# Altium footprint library CUI_PBO-5C.PcbLib: 1 footprints
Each footprint in its own frame and in the unit in brackets; x right, y up, seen from the top. Pads: shape width x height; smd on the part's side, far side on the other; paste and mask are expansions set on the pad; w line width, h text height; cw(c..) or ccw(c..) is an arc to the next point about the centre after c.
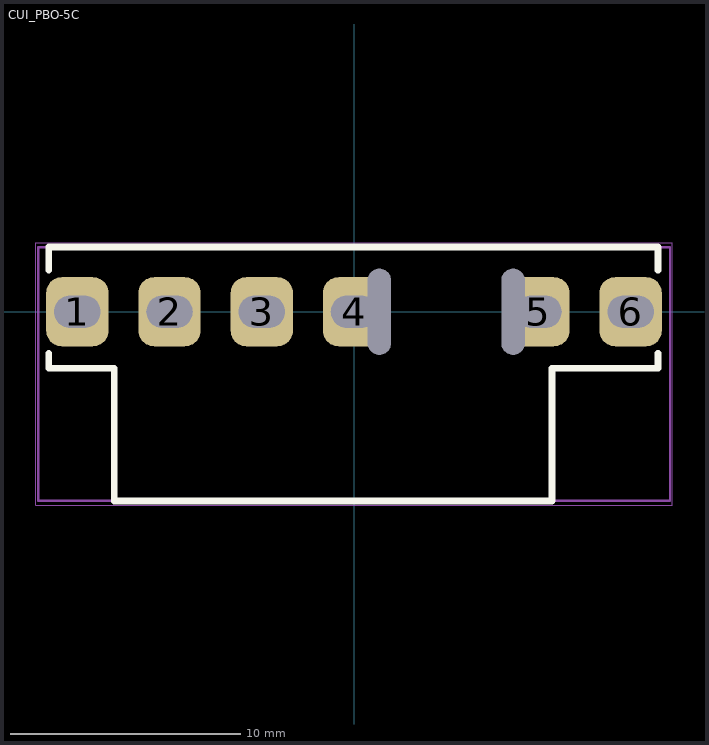
[diagram p0: the footprint, top view; thin cyan lines are the x and y axes]

## CUI_PBO-5C [mm] "CUI_PBO-5C"
height 15.73
pads (8):
  rrect50% 2.7x3 hole 1.4 slot 2 at 0 deg mask+0.05: 1(-12,0) 2(-8,0) 3(-4,0) 4(0,0) 5(8,0) 6(12,0)
  round 0 hole 1 slot 3.73 at 90 deg unplated mask+0.05: 4(1.1,0) 5(6.9,0)
Top Overlay:
  lines w0.3: -13.241,-1.8 -13.241,-2.451 -10.4,-2.451 -10.4,-8.2 8.581,-8.2 8.581,-2.451 13.179,-2.451 13.179,-1.8 ; -13.241,1.8 -13.241,2.8 13.179,2.8 13.179,1.8
Mechanical 13:
  lines w0.1: -13.7,-8.2 -13.7,2.8 13.7,2.8 ; -13.694,-8.2 13.706,-8.2 13.706,2.8
Mechanical 15:
  lines w0.05: -13.8,-8.4 13.8,-8.4 13.8,3 -13.8,3 -13.8,-8.4
  lines w0.1: -0.5,0 0.5,0 ; 0,-0.5 0,0.5
3D body "CUI_PBO-5C.step": height 14.75, standoff -2.86, extent -13.308,-7.65 13.06,2.8